# EAGLE library part ILI9341_TOUCH_SD (library maple_mini)
LCD panel with touch screen and SD card socket
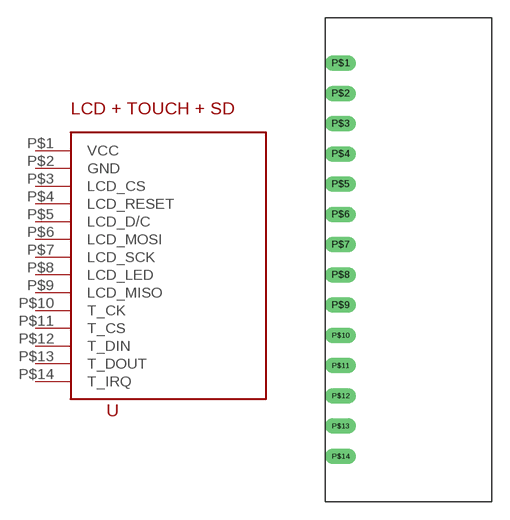
[diagram p1: symbol with the pads of 2.4_INCH; footprint 2.4_INCH]

Designator prefix -

## ILI9341_TOUCH_SD  [2.4_INCH]
P$1  VCC  pwr
P$2  GND  pwr
P$3  LCD_CS  in
P$4  LCD_RESET  in
P$5  LCD_D/C  in
P$6  LCD_MOSI  in
P$7  LCD_SCK  in
P$8  LCD_LED
P$9  LCD_MISO
P$10  T_CK  in
P$11  T_CS
P$12  T_DIN  in
P$13  T_DOUT  out
P$14  T_IRQ  out

## Footprint 2.4_INCH (pad centres in mm)
drill 0.8 long: P$1 0,0; P$2 0,-2.54; P$3 0,-5.08; P$4 0,-7.62; P$5 0,-10.16; P$6 0,-12.7; P$7 0,-15.24; P$8 0,-17.78; P$9 0,-20.32; P$10 0,-22.86; P$11 0,-25.4; P$12 0,-27.94; P$13 0,-30.48; P$14 0,-33.02